# EAGLE library part ULTRA-MINI-PRO (library flupes)
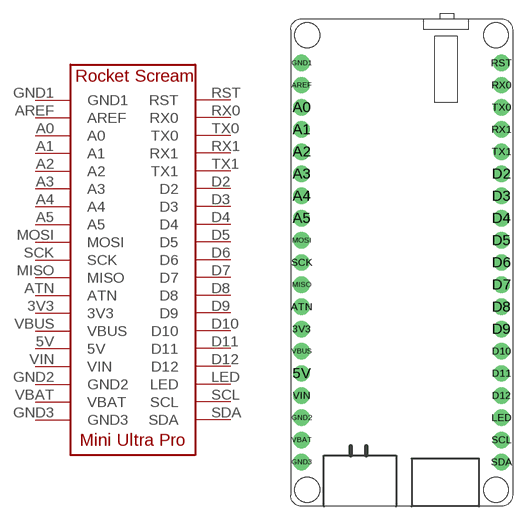
[diagram p0: symbol with the pads of ULTRA-MINI-PRO_RECEIVER; footprint ULTRA-MINI-PRO_RECEIVER]

Designator prefix -

## ULTRA-MINI-PRO  [ULTRA-MINI-PRO_RECEIVER]
3V3  3V3
5V  5V
A0  A0
A1  A1
A2  A2
A3  A3
A4  A4
A5  A5
AREF  AREF
ATN  ATN
D2  D2
D3  D3
D4  D4
D5  D5
D6  D6
D7  D7
D8  D8
D9  D9
D10  D10
D11  D11
D12  D12
GND1  GND1
GND2  GND2
GND3  GND3
LED  LED
MISO  MISO
MOSI  MOSI
RST  RST
RX0  RX0
RX1  RX1
SCK  SCK
SCL  SCL
SDA  SDA
TX0  TX0
TX1  TX1
VBAT  VBAT
VBUS  VBUS
VIN  VIN

## Footprint ULTRA-MINI-PRO_RECEIVER (pad centres in mm)
drill 1.016 pad 1.88: 3V3 -11.43,-7.62; 5V -11.43,-12.7; A0 -11.43,17.78; A1 -11.43,15.24; A2 -11.43,12.7; A3 -11.43,10.16; A4 -11.43,7.62; A5 -11.43,5.08; AREF -11.43,20.32; ATN -11.43,-5.08; D2 11.43,10.16; D3 11.43,7.62; D4 11.43,5.08; D5 11.43,2.54; D6 11.43,0; D7 11.43,-2.54; D8 11.43,-5.08; D9 11.43,-7.62; D10 11.43,-10.16; D11 11.43,-12.7; D12 11.43,-15.24; GND1 -11.43,22.86; GND2 -11.43,-17.78; GND3 -11.43,-22.86; LED 11.43,-17.78; MISO -11.43,-2.54; MOSI -11.43,2.54; RST 11.43,22.86; RX0 11.43,20.32; RX1 11.43,15.24; SCK -11.43,0; SCL 11.43,-20.32; SDA 11.43,-22.86; TX0 11.43,17.78; TX1 11.43,12.7; VBAT -11.43,-20.32; VBUS -11.43,-10.16; VIN -11.43,-15.24